# EAGLE library part DUAL_NPN (library rezzonics)
Dual NPN BJT Transistor SOT363 (SC-70-6) BC847BDW1T1G
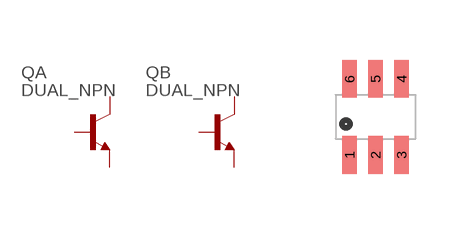
[diagram p5: symbol with the pads of SOT-363; footprint SOT-363]

Designator prefix Q; gates A=NPN B=NPN

## DUAL_NPN  [SOT-363]
1  B:E1  pas
2  B:B1  pas
3  A:C1  pas
4  A:E1  pas
5  A:B1  pas
6  B:C1  pas

## Footprint SOT-363 (pad centres in mm)
smd 0.36 x 0.95: 1 -0.65,-0.95; 2 0,-0.95; 3 0.65,-0.95; 4 0.65,0.95; 5 0,0.95; 6 -0.65,0.95